# Altium schematic symbol library SamacSys.SchLib: 9 symbols
Pins are listed as number, name and electrical type; pins without a type are passive.

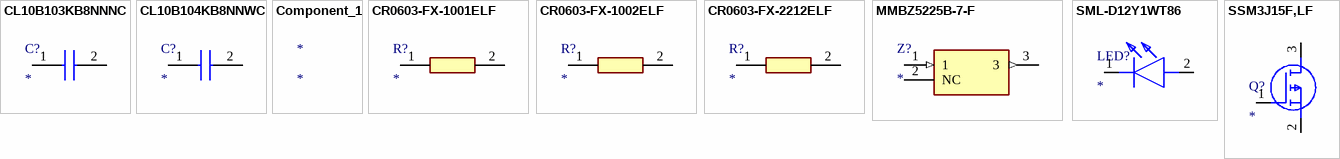
[diagram p0: symbols CL10B103KB8NNNC to SSM3J15F,LF]

## CL10B103KB8NNNC
designator C?
Capacitor; Manufacturer_Name: Samsung Electro-Mechanics; Manufacturer_Part_Number: CL10B103KB8NNNC; Description: Samsung Electro-Mechanics 0603 CL 10nF Ceramic Multilayer Capacitor; Datasheet Link: https://datasheet.datasheetarchive.com/originals/distributors/Datasheets_SAMA/f3f01ceab90a863c6d6e9eba92d45bd3.pdf; Height: 0.9mm; Mouser Part Number: 187-CL10B103KB8NNNC; Mouser Price/Stock: https://www.mouser.co.uk/ProductDetail/Samsung-Electro-Mechanics/CL10B103KB8NNNC?qs=349EhDEZ59pAsZxZjVI0UQ%3D%3D; Arrow Part Number: CL10B103KB8NNNC; Arrow Price/Stock: https://www.arrow.com/en/products/cl10b103kb8nnnc/samsung-electro-mechanics?region=nac
footprint CAPC1608X90N
pins: 1, 2

## CL10B104KB8NNWC
designator C?
Capacitor; Manufacturer_Name: Samsung Electro-Mechanics; Manufacturer_Part_Number: CL10B104KB8NNWC; Description: Multilayer Ceramic Capacitors MLCC - SMD/SMT 100nF+/-10% 50V X7R 1608; Datasheet Link: http://www.samsungsem.com/kr/support/product-search/mlcc/CL10B104KB8NNWC.jsp; Height: 0.9mm
footprint CAPC1608X90N
pins: 1, 2

## Component_1
designator *

## CR0603-FX-1001ELF
designator R?
Resistor; Manufacturer_Name: Bourns; Manufacturer_Part_Number: CR0603-FX-1001ELF; Description: SMD 0603 thick film resistor 1K 1% Bourns CR0603-FX Series Thick Film Surface Mount Fixed Resistor 0603 Case 1k +/-1% 0.1W +/-100ppm/C; Datasheet Link: https://www.bourns.com/pdfs/chpreztr.pdf; Height: 0.55mm; Mouser Part Number: 652-CR0603FX-1001ELF; Mouser Price/Stock: https://www.mouser.co.uk/ProductDetail/Bourns/CR0603-FX-1001ELF?qs=K5ddiUFZPT4YQXF75Ui8dQ%3D%3D; Arrow Part Number: CR0603-FX-1001ELF; Arrow Price/Stock: https://www.arrow.com/en/products/cr0603-fx-1001elf/bourns?region=nac
footprint RESC1608X55N
pins: 1, 2

## CR0603-FX-1002ELF
designator R?
Resistor; Manufacturer_Name: Bourns; Manufacturer_Part_Number: CR0603-FX-1002ELF; Description: SMD 0603 thick film resistor 10K 1% Bourns CR0603-FX Series Thick Film Surface Mount Fixed Resistor 0603 Case 10k +/-1% 0.1W +/-100ppm/C; Datasheet Link: https://www.bourns.com/pdfs/chpreztr.pdf; Height: 0.55mm; Mouser Part Number: 652-CR0603FX-1002ELF; Mouser Price/Stock: https://www.mouser.co.uk/ProductDetail/Bourns/CR0603-FX-1002ELF?qs=K5ddiUFZPT6XHG0dQH96QA%3D%3D; Arrow Part Number: CR0603-FX-1002ELF; Arrow Price/Stock: https://www.arrow.com/en/products/cr0603-fx-1002elf/bourns?region=nac
footprint RESC1608X55N
pins: 1, 2

## CR0603-FX-2212ELF
designator R?
Resistor; Manufacturer_Name: Bourns; Manufacturer_Part_Number: CR0603-FX-2212ELF; Description: BOURNS - CR0603-FX-2212ELF - RES; Datasheet Link: https://www.bourns.com/pdfs/chpreztr.pdf; Height: 0.55mm; Mouser Part Number: 652-CR0603FX-2212ELF; Mouser Price/Stock: https://www.mouser.co.uk/ProductDetail/Bourns/CR0603-FX-2212ELF?qs=zx2075yZkZJFzojWSdyX6Q%3D%3D; Arrow Part Number: CR0603-FX-2212ELF; Arrow Price/Stock: https://www.arrow.com/en/products/cr0603-fx-2212elf/bourns
footprint RESC1608X55N
pins: 1, 2

## MMBZ5225B-7-F
designator Z?
Zener Diode; Manufacturer_Name: Diodes Inc.; Manufacturer_Part_Number: MMBZ5225B-7-F; Datasheet Link: https://www.arrow.com/en/products/mmbz5225b-7-f/diodes-incorporated?region=nac; Height: 1.1mm
footprint SOT96P240X110-3N
pins: 1 (in), 2 NC, 3 (out)

## SML-D12Y1WT86
designator LED?
LED; Manufacturer_Name: ROHM Semiconductor; Manufacturer_Part_Number: SML-D12Y1WT86; Datasheet Link: https://componentsearchengine.com/Datasheets/1/SML-D12Y1WT86.pdf; Height: 0.55mm; Mouser Part Number: 755-SML-D12Y1WT86; Mouser Price/Stock: https://www.mouser.co.uk/ProductDetail/ROHM-Semiconductor/SML-D12Y1WT86?qs=M3jcYzEJUdG%2FAKvzZK%252Bz7w%3D%3D
footprint LEDC1608X55N
pins: 1 K, 2 A

## SSM3J15F,LF
designator Q?
MOSFET (P-Channel); Manufacturer_Name: Toshiba; Manufacturer_Part_Number: SSM3J15F,LF; Description: Small Signal MOSFET P-ch VDSS=-30V; Datasheet Link: https://toshiba.semicon-storage.com/ap-en/semiconductor/design-development/package/detail.S-Mini.html; Height: 1.4mm; Mouser Part Number: 757-SSM3J15FLF; Mouser Price/Stock: https://www.mouser.co.uk/ProductDetail/Toshiba/SSM3J15FLF?qs=B6kkDfuK7%2FCnACD7LX84GA%3D%3D
footprint SSM3J15FLF
pins: 1 G, 2 S, 3 D